# Altium schematic symbol library THS4509RGTT.SchLib: 1 symbol
Pins are listed as number, name and electrical type; pins without a type are passive.

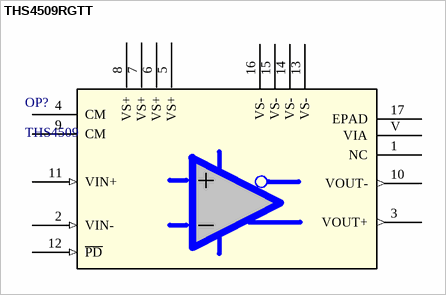
[diagram p0: symbol THS4509RGTT]

## THS4509RGTT
designator OP?, comment THS4509
Differential Amplifier 1 Circuit Differential 16-QFN (3x3); Manufacturer_Part_Number: THS4509RGTT; Vendor: Texas Instruments; Built_By: EMA_UL_Team; C: Copyright (C) 2015 Accelerated Designs. All rights reserved; RefDes: RefDes; Type: DEV; Value: Value; Supplier 1: Mouser; Supplier Part Number 1: 595-THS4509RGTT
footprint RGT16
pins: 1 NC, 2 VIN- (in), 3 VOUT+ (out), 4 CM, 5 VS+ (power), 6 VS+ (power), 7 VS+ (power), 8 VS+ (power), 9 CM, 10 VOUT- (out), 11 VIN+ (in), 12 ~{PD} (in), 13 VS- (power), 14 VS- (power), 15 VS- (power), 16 VS- (power), 17 EPAD, V VIA